# EAGLE library part DF40C-70DP-0.4V (library UsefulConnectors)
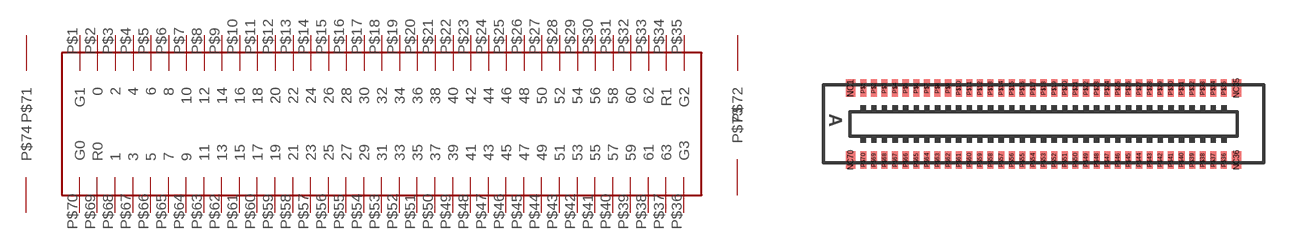
[diagram p7: symbol with the pads of DF40C-70DP-0.4V; footprint DF40C-70DP-0.4V]

Designator prefix -

## DF40C-70DP-0.4V  [DF40C-70DP-0.4V]
P$1  G1
P$2  0
P$3  2
P$4  4
P$5  6
P$6  8
P$7  10
P$8  12
P$9  14
P$10  16
P$11  18
P$12  20
P$13  22
P$14  24
P$15  26
P$16  28
P$17  30
P$18  32
P$19  34
P$20  36
P$21  38
P$22  40
P$23  42
P$24  44
P$25  46
P$26  48
P$27  50
P$28  52
P$29  54
P$30  56
P$31  58
P$32  60
P$33  62
P$34  R1
P$35  G2
P$36  G3
P$37  63
P$38  61
P$39  59
P$40  57
P$41  55
P$42  53
P$43  51
P$44  49
P$45  47
P$46  45
P$47  43
P$48  41
P$49  39
P$50  37
P$51  35
P$52  33
P$53  31
P$54  29
P$55  27
P$56  25
P$57  23
P$58  21
P$59  19
P$60  17
P$61  15
P$62  13
P$63  11
P$64  9
P$65  7
P$66  5
P$67  3
P$68  1
P$69  R0
P$70  G0

## Footprint DF40C-70DP-0.4V (pad centres in mm)
smd 0.35 x 0.66: NC1 -7.275,1.355; NC35 7.275,1.355; NC36 7.275,-1.355; NC70 -7.275,-1.355
smd 0.23 x 0.66: P$1 -6.8,1.355; P$2 -6.4,1.355; P$3 -6,1.355; P$4 -5.6,1.355; P$5 -5.2,1.355; P$6 -4.8,1.355; P$7 -4.4,1.355; P$8 -4,1.355; P$9 -3.6,1.355; P$10 -3.2,1.355; P$11 -2.8,1.355; P$12 -2.4,1.355; P$13 -2,1.355; P$14 -1.6,1.355; P$15 -1.2,1.355; P$16 -0.8,1.355; P$17 -0.4,1.355; P$18 0,1.355; P$19 0.4,1.355; P$20 0.8,1.355; P$21 1.2,1.355; P$22 1.6,1.355; P$23 2,1.355; P$24 2.4,1.355; P$25 2.8,1.355; P$26 3.2,1.355; P$27 3.6,1.355; P$28 4,1.355; P$29 4.4,1.355; P$30 4.8,1.355; P$31 5.2,1.355; P$32 5.6,1.355; P$33 6,1.355; P$34 6.4,1.355; P$35 6.8,1.355; P$36 6.8,-1.355; P$37 6.4,-1.355; P$38 6,-1.355; P$39 5.6,-1.355; P$40 5.2,-1.355; P$41 4.8,-1.355; P$42 4.4,-1.355; P$43 4,-1.355; P$44 3.6,-1.355; P$45 3.2,-1.355; P$46 2.8,-1.355; P$47 2.4,-1.355; P$48 2,-1.355; P$49 1.6,-1.355; P$50 1.2,-1.355; P$51 0.8,-1.355; P$52 0.4,-1.355; P$53 0,-1.355; P$54 -0.4,-1.355; P$55 -0.8,-1.355; P$56 -1.2,-1.355; P$57 -1.6,-1.355; P$58 -2,-1.355; P$59 -2.4,-1.355; P$60 -2.8,-1.355; P$61 -3.2,-1.355; P$62 -3.6,-1.355; P$63 -4,-1.355; P$64 -4.4,-1.355; P$65 -4.8,-1.355; P$66 -5.2,-1.355; P$67 -5.6,-1.355; P$68 -6,-1.355; P$69 -6.4,-1.355; P$70 -6.8,-1.355